# Altium footprint library PCB - CONNECTOR - OST - OST OSTTC040162.PcbLib: 1 footprints
Each footprint in its own frame and in the unit in brackets; x right, y up, seen from the top. Pads: shape width x height; smd on the part's side, far side on the other; paste and mask are expansions set on the pad; w line width, h text height; cw(c..) or ccw(c..) is an arc to the next point about the centre after c.
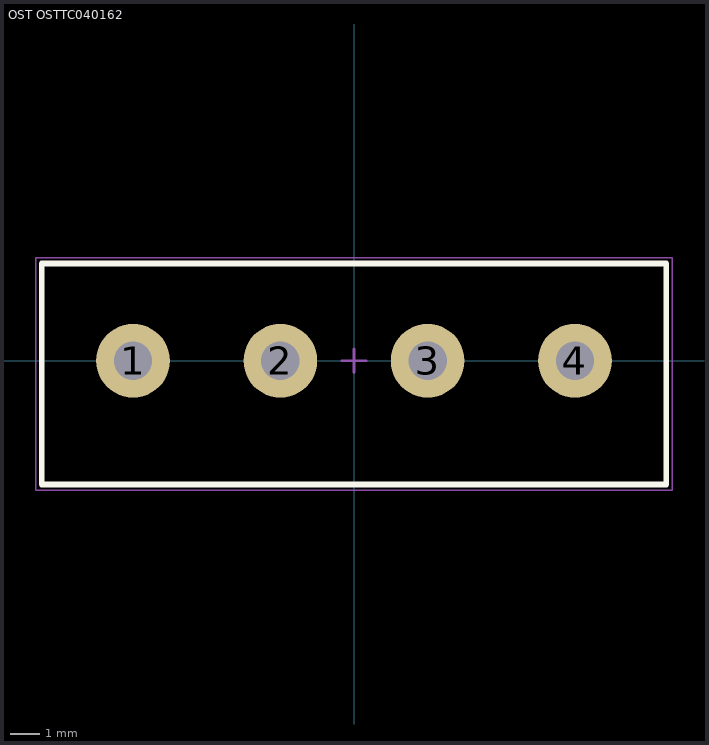
[diagram p0: the footprint, top view; thin cyan lines are the x and y axes]

## OST OSTTC040162 [mm] "Wire to Board Terminal Block Horizontal with Board, 4 Postions, Body 21.2x7.5mm, Pitch 5mm"
height 10.3
pads (4):
  round 2.5 hole 1.3: 1(-7.5,0) 2(-2.5,0) 3(2.5,0) 4(7.5,0)
Top Overlay:
  lines w0.2: -10.6,-4.2 10.6,-4.2 10.6,3.3 -10.6,3.3 -10.6,-4.2
Mechanical 13:
  lines w0.1: -10.6,-4.2 -10.6,3.3 10.6,3.3 10.6,-4.2 -10.6,-4.2
Mechanical 15 (Mech15):
  lines w0.05: -10.8,-4.4 -10.8,3.5 10.8,3.5 10.8,-4.4 -10.8,-4.4
  lines w0.1: -0.4,0 0,0 ; 0,-0.4 0,0 ; 0,0.4 0,0 ; 0.4,0 0,0
3D body "OST - OSTTC040162.stp": height 10.3, standoff -3.8, extent -10.6,-4.2 10.6,3.3